# EAGLE library part BQ25703A (library m_ic-power)
bq25703A I2C Multi-Chemistry Battery Buck-Boost Charge Controller Features Charge 1- to 4-Cell Battery From Wide Range of Input Sources 3.5-V to 24-V Input Operating Voltage Supports USB2.0, USB 3.0, USB 3.1 (Type C), and USB_PD Input Current Settings Seamless Transition Between Buck and Boost Operation Input Current and Voltage Regulation (IDPM and VDPM) Against Source Overload Power/Current Monitor for CPU Throttling Comprehensive PROCHOT Profile, IMVP8 Compliant Input and Battery Current Monitor System Power Monitor, IMVP8 Compliant Narrow-VDC (NVDC) Power Path Management Instant-On With No Battery or Deeply Discharged Battery Battery Supplements System When Adapter is Fully-Loaded Ideal Diode Operation in Supplement Mode Power Up USB Port From Battery (USB OTG) Output 4.48-V to 20.8-V Compatible With USB PD Output Current Limit up to 6.35 A 800-kHz or 1.2-MHz Programmable Switching Frequency for 1-μH to 2.2-μH Low Profile Inductor Host Control Interface for Flexible System Configuration I2C (bq25703A) Port for Optimal System Performance and Status Reporting Hardware Pin to Set Input Current Limit Without EC Control High Accuracy Regulation and Monitor ±0.5% Charge Voltage Regulation ±2% Input/Charge Current Regulation ±2% Input/Charge Current Monitor ±5% Power Monitor Safety Thermal Shutdown Input, System, Battery Overvoltage Protection MOSFET Inductor Overcurrent Protection Low Battery Quiescent Current Input Current Optimizer (ICO) to Extract Max Input Power Charge Any Battery Chemistry: Li+, LiFePO4, NiCd, NiMH, Lead Acid Package: 32-Pin 4 × 4 WQFN Description The bq25703A is a synchronous NVDC battery buck- boost charge controller, offering low component count, high efficiency solution for space-constraint, multi-chemistry battery charging applications. The NVDC-1 configuration allows the system to be regulated at battery voltage, but not drop below system minimum voltage. The system keeps operating even when the battery is completely discharged or removed. When load power exceeds input source rating, the battery goes into supplement mode and prevents the input source from being overloaded. The bq25703A charges battery from a wide range of input sources including USB adapter, high voltage USB PD sources and traditional adapters. Octopart Search <https://octopart.com/search?q=BQ25703ARSN%3F&start=0> Datasheet link <https://octopart.com/click/track?ct=datasheets&hlid=25228273&ppid=81848930&sid=370&sig=0ff8797> Added 2017-06-28
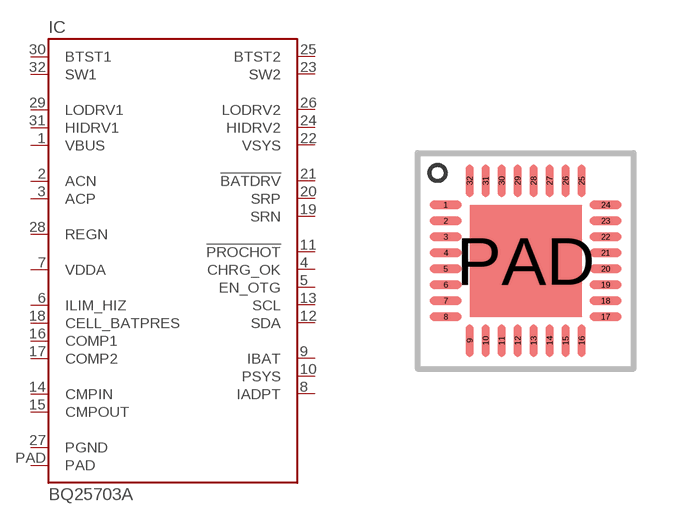
[diagram p13: symbol with the pads of S-PWQFN-N32; footprint S-PWQFN-N32]

Designator prefix IC

## BQ25703A (MANUF: Texas Instruments; PARTNUM: BQ25703ARSN?; VALUE: bq25703A)  [S-PWQFN-N32]
1  VBUS  pas
2  ACN  pas
3  ACP  pas
4  CHRG_OK  pas
5  EN_OTG  pas
6  ILIM_HIZ  pas
7  VDDA  pas
8  IADPT  pas
9  IBAT  pas
10  PSYS  pas
11  !PROCHOT  pas
12  SDA  pas
13  SCL  pas
14  CMPIN  pas
15  CMPOUT  pas
16  COMP1  pas
17  COMP2  pas
18  CELL_BATPRES  pas
19  SRN  pas
20  SRP  pas
21  !BATDRV  pas
22  VSYS  pas
23  SW2  pas
24  HIDRV2  pas
25  BTST2  pas
26  LODRV2  pas
27  PGND  pas
28  REGN  pas
29  LODRV1  pas
30  BTST1  pas
31  HIDRV1  pas
32  SW1  pas
PAD  PAD  pas

## Footprint S-PWQFN-N32 (pad centres in mm)
S-PWQFN-N32 (RSN) Package Based on TI drawing 4207873/F 03/14 Added 2017-06-28 Note: suggested 0.05mm soldermask clearance. 0.125mm paste stencil or thinner. Use 9x 0.3mm thermal vias.
smd 0.8 x 0.2: 1 -2,1.4; 2 -2,1; 3 -2,0.6; 4 -2,0.2; 5 -2,-0.2; 6 -2,-0.6; 7 -2,-1; 8 -2,-1.4; 17 2,-1.4; 18 2,-1; 19 2,-0.6; 20 2,-0.2; 21 2,0.2; 22 2,0.6; 23 2,1; 24 2,1.4
smd 0.2 x 0.8: 9 -1.4,-2; 10 -1,-2; 11 -0.6,-2; 12 -0.2,-2; 13 0.2,-2; 14 0.6,-2; 15 1,-2; 16 1.4,-2; 25 1.4,2; 26 1,2; 27 0.6,2; 28 0.2,2; 29 -0.2,2; 30 -0.6,2; 31 -1,2; 32 -1.4,2
smd 2.8 x 2.8: PAD 0,0